# EAGLE library part LPS22HB (library CarTalkImu)
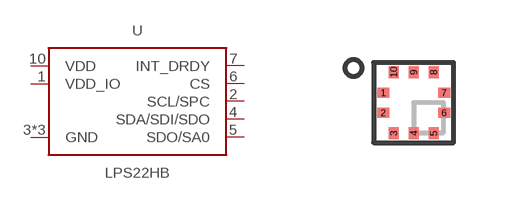
[diagram p3: symbol with the pads of HLGA-10L; footprint HLGA-10L]

Designator prefix -

## LPS22HB (MANUFACTURER: STMicroelectronics; MPN: LPS22HBTR; PN-DK: 497-16265-1-ND)  [HLGA-10L]
1  VDD_IO
2  SCL/SPC
3  GND
4  SDA/SDI/SDO
5  SDO/SA0
6  CS
7  INT_DRDY
8  GND
9  GND
10  VDD

## Footprint HLGA-10L (pad centres in mm)
smd 0.3 x 0.25: 1 -0.762,0.25; 2 -0.762,-0.25; 6 0.762,-0.25; 7 0.762,0.25
smd 0.25 x 0.3: 3 -0.5,-0.762; 4 0,-0.762; 5 0.5,-0.762; 8 0.5,0.762; 9 0,0.762; 10 -0.5,0.762